# Altium schematic symbol library MAMK2520H2R2M.SchLib: 1 symbol
Pins are listed as number, name and electrical type; pins without a type are passive.

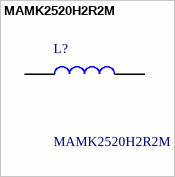
[diagram p0: symbol MAMK2520H2R2M]

## MAMK2520H2R2M
designator L?
Fixed Inductors 1008 2.2uH 90mOhms +/-20%Tol 2.2A HiCur; Manufacturer_Name: TAIYO YUDEN; Geometry.Height: 1.2mm; Mouser Part Number: 963-MAMK2520H2R2M; Mouser Price/Stock: https://www.mouser.co.uk/ProductDetail/TAIYO-YUDEN/MAMK2520H2R2M?qs=4JX4e57RtWy63Hw12ZxQ0w%3D%3D; Manufacturer_Part_Number: MAMK2520H2R2M; Datasheet Link: https://ds.yuden.co.jp/TYCOMPAS/ut/detail?pn=MAMK2520H2R2M &u=M
footprint INDC2520X120N
pins: 1, 2